# Altium schematic symbol library TactileSwitch_SKQMBAE010.SchLib: 1 symbol
Pins are listed as number, name and electrical type; pins without a type are passive.

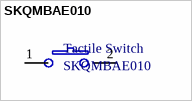
[diagram p0: symbol SKQMBAE010]

## SKQMBAE010
designator Tactile Switch
ALPS 6.0x3.5x4.3mm SMD Tactile Switch, Ratings 50mA/12VDC
footprint SKTHBAE010 (Tactile Switch 4-Pad Footprint)
pins: 1, 2